# Altium footprint library Components - 18.08.24 - 13.13.PcbLib: 1 footprints
Each footprint in its own frame and in the unit in brackets; x right, y up, seen from the top. Pads: shape width x height; smd on the part's side, far side on the other; paste and mask are expansions set on the pad; w line width, h text height; cw(c..) or ccw(c..) is an arc to the next point about the centre after c.
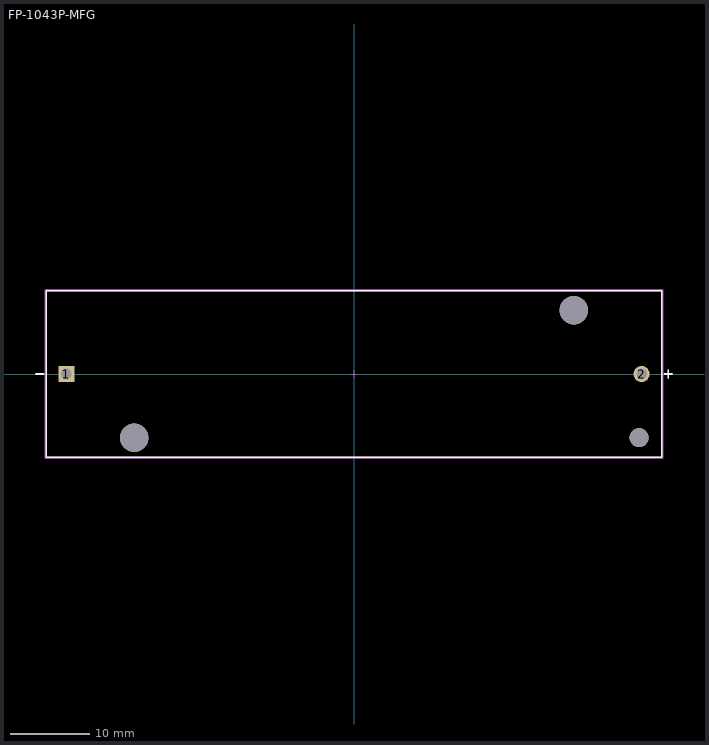
[diagram p0: the footprint, top view; thin cyan lines are the x and y axes]

## FP-1043P-MFG [mm]
pads (5):
  rect 2.02x2.02 hole 1.32 paste-2539.97 mask+0: 1(-36.11,0)
  round 2.02 hole 1.32 paste-2539.97 mask+0: 2(36.11,0)
  round 3.55 hole 3.55 unplated paste-2539.97 mask+0: ""(-27.6,-8) ""(27.6,8)
  round 2.39 hole 2.39 unplated paste-2539.97 mask+0: ""(35.8,-8)
Top Overlay:
  lines w0.2: -39.95,0 -38.95,0 ; 38.95,0 39.95,0 ; 39.45,-0.5 39.45,0.5 ; -38.65,-10.45 -38.65,10.45 38.65,10.45 38.65,-10.45 -38.65,-10.45
Top Assembly:
  lines w0.2: -38.75,-10.55 -38.75,10.55 38.75,10.55 38.75,-10.55 -38.75,-10.55
  text ".Designator" at 0,-0.001 h1
Top 3D Body:
  lines w0.2: -38.65,-10.45 -38.65,10.45 38.65,10.45 38.65,-10.45 -38.65,-10.45
Top Courtyard:
  lines w0.2: -38.75,-10.55 -38.75,10.55 38.75,10.55 38.75,-10.55 -38.75,-10.55
Top Component Center:
  lines w0.1: -0.5,0 0.5,0 ; 0,-0.5 0,0.5
3D body "Conn_Keystone_1043P_eec.STEP": height 0.25, standoff 0, extent -38.75,-10.55 38.75,10.55